# Altium integrated library CUPL PLD Programming.IntLib: 365 symbols (part 1 of 2)
Pins are listed as number, name and electrical type; pins without a type are passive.

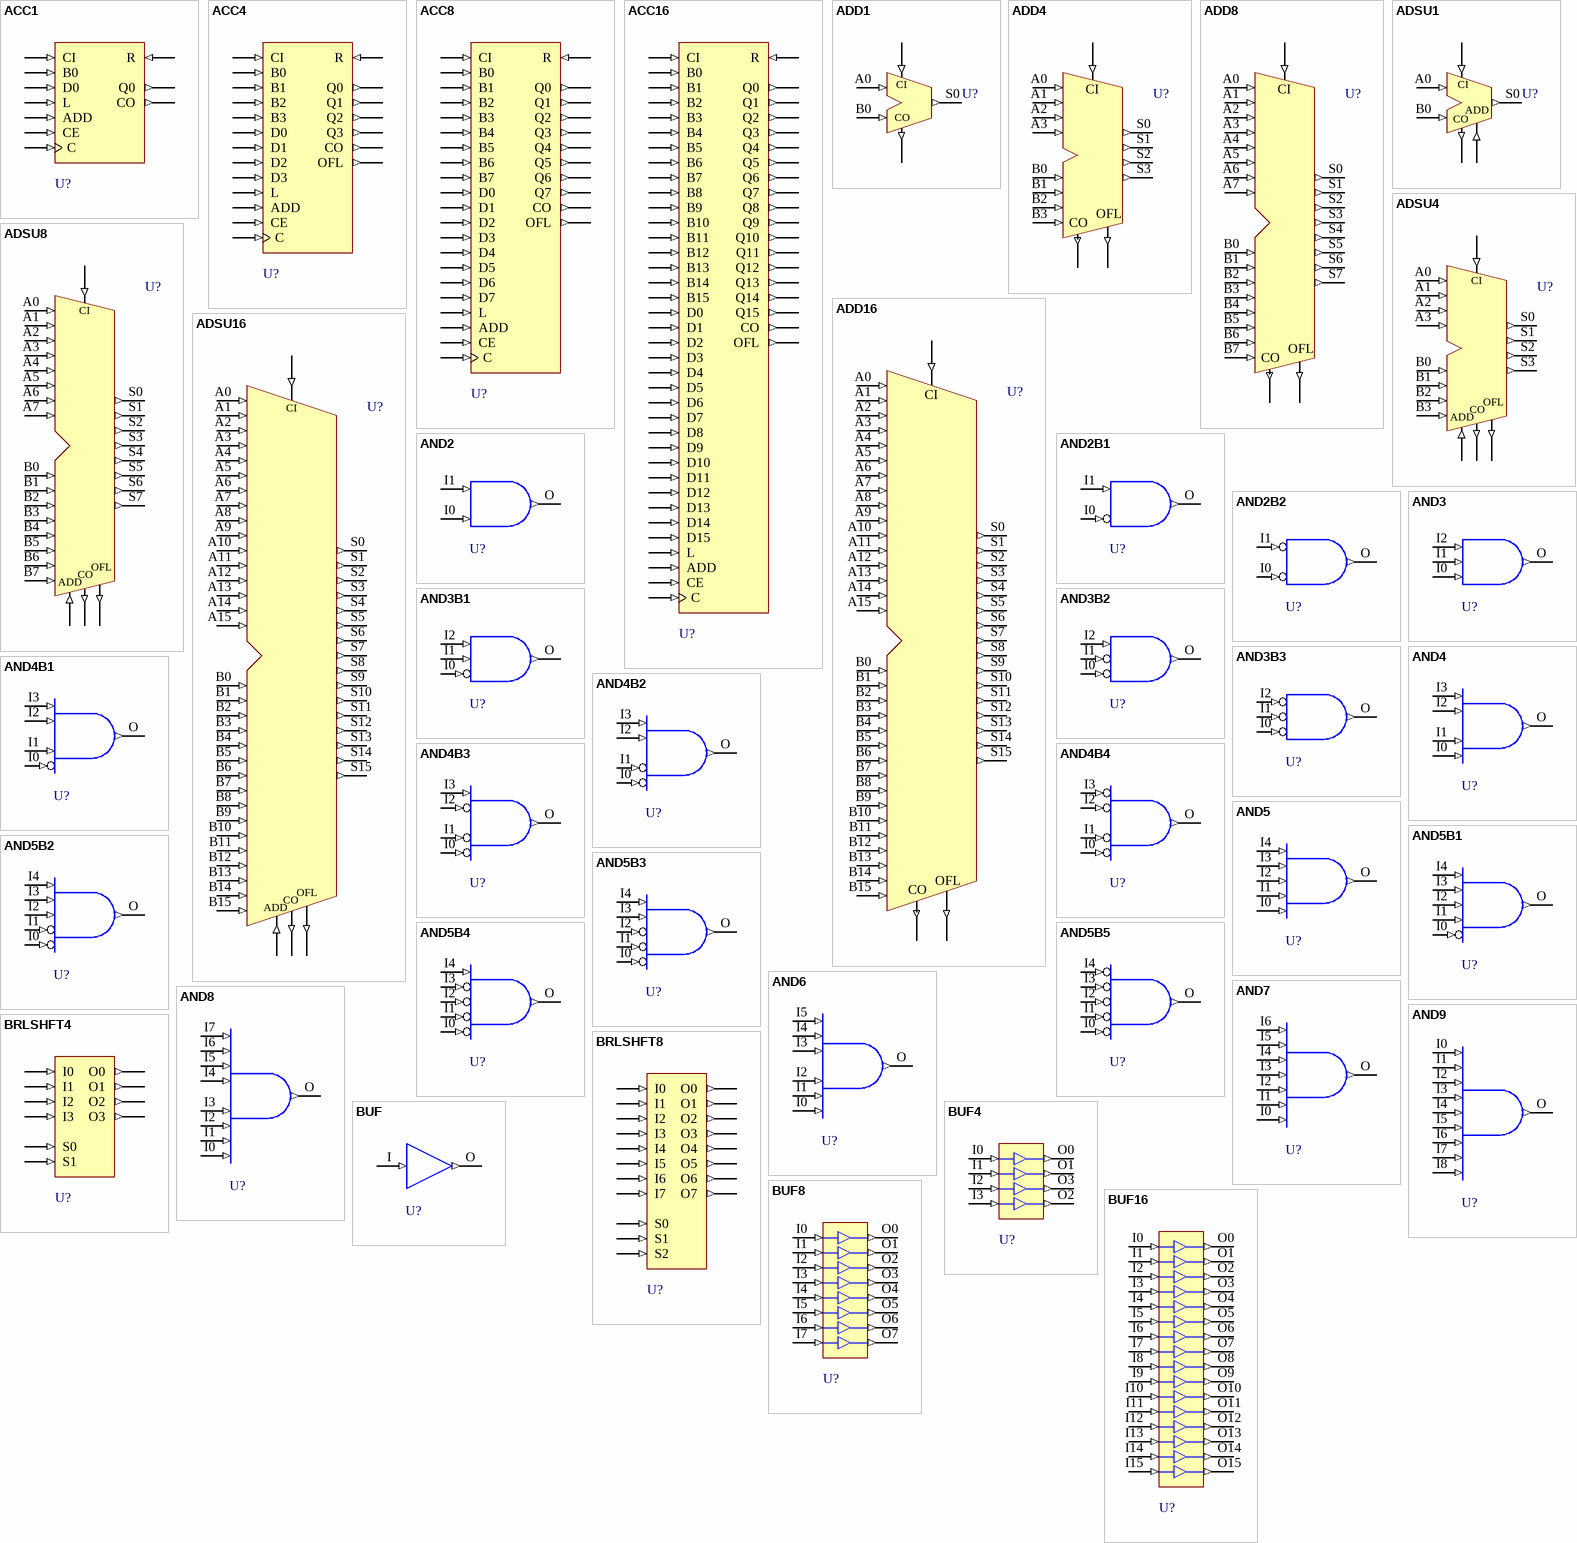
[diagram p0: symbols ACC1 to BUF16]

## ACC1
designator U?
1-Bit Loadable Cascadable Accumulator with Carry-In, Carry-Out and Synchronous Reset; FPGAVendor: CUPL; Published: 17/04/2002 5:24:18 PM; DatasheetDocument: 1999; Publisher: Altium Limited
pins: ADD (in), B0 (in), C (in), CE (in), CI (in), CO (out), D0 (in), L (in), Q0 (out), R (in)

## ACC4
designator U?
4-Bit Loadable Cascadable Accumulator with Carry-In, Carry-Out and Synchronous Reset; FPGAVendor: CUPL; Published: 17/04/2002 5:24:18 PM; DatasheetDocument: 1999; Publisher: Altium Limited
pins: ADD (in), B0 (in), B1 (in), B2 (in), B3 (in), C (in), CE (in), CI (in), CO (out), D0 (in), D1 (in), D2 (in), D3 (in), L (in), OFL (out), Q0 (out), Q1 (out), Q2 (out), Q3 (out), R (in)

## ACC8
designator U?
8-Bit Loadable Cascadable Accumulator with Carry-In, Carry-Out and Synchronous Reset; FPGAVendor: CUPL; Published: 17/04/2002 5:24:18 PM; DatasheetDocument: 1999; Publisher: Altium Limited
pins: ADD (in), B0 (in), B1 (in), B2 (in), B3 (in), B4 (in), B5 (in), B6 (in), B7 (in), C (in), CE (in), CI (in), CO (out), D0 (in), D1 (in), D2 (in), D3 (in), D4 (in), D5 (in), D6 (in), D7 (in), L (in), OFL (out), Q0 (out), Q1 (out), Q2 (out), Q3 (out), Q4 (out), Q5 (out), Q6 (out), Q7 (out), R (in)

## ACC16
designator U?
16-Bit Loadable Cascadable Accumulator with Carry-In, Carry-Out and Synchronous Reset; FPGAVendor: CUPL; Published: 17/04/2002 5:24:18 PM; DatasheetDocument: 1999; Publisher: Altium Limited
pins: ADD (in), B0 (in), B1 (in), B2 (in), B3 (in), B4 (in), B5 (in), B6 (in), B7 (in), B8 (in), B9 (in), B10 (in), B11 (in), B12 (in), B13 (in), B14 (in), B15 (in), C (in), CE (in), CI (in), CO (out), D0 (in), D1 (in), D2 (in), D3 (in), D4 (in), D5 (in), D6 (in), D7 (in), D8 (in), D9 (in), D10 (in), D11 (in), D12 (in), D13 (in), D14 (in), D15 (in), L (in), OFL (out), Q0 (out), Q1 (out), Q2 (out), Q3 (out), Q4 (out), Q5 (out), Q6 (out), Q7 (out), Q8 (out), Q9 (out), Q10 (out), Q11 (out), Q12 (out), Q13 (out), Q14 (out), Q15 (out), R (in)

## ADD1
designator U?
1-Bit Full Adder with Carry-In and Carry-Out; FPGAVendor: CUPL; Published: 17/04/2002 5:24:18 PM; DatasheetDocument: 1999; Publisher: Altium Limited
pins: A0 (in), B0 (in), CI (in), CO (out), S0 (out)

## ADD4
designator U?
4-Bit Cascadable Full Adders with Carry-In, Carry-Out and Overflow; FPGAVendor: CUPL; Published: 17/04/2002 5:24:18 PM; DatasheetDocument: 1999; Publisher: Altium Limited
pins: A0 (in), A1 (in), A2 (in), A3 (in), B0 (in), B1 (in), B2 (in), B3 (in), CI (in), CO (out), OFL (out), S0 (out), S1 (out), S2 (out), S3 (out)

## ADD8
designator U?
8-Bit Cascadable Full Adders with Carry-In, Carry-Out and Overflow; FPGAVendor: CUPL; Published: 17/04/2002 5:24:18 PM; DatasheetDocument: 1999; Publisher: Altium Limited
pins: A0 (in), A1 (in), A2 (in), A3 (in), A4 (in), A5 (in), A6 (in), A7 (in), B0 (in), B1 (in), B2 (in), B3 (in), B4 (in), B5 (in), B6 (in), B7 (in), CI (in), CO (out), OFL (out), S0 (out), S1 (out), S2 (out), S3 (out), S4 (out), S5 (out), S6 (out), S7 (out)

## ADD16
designator U?
16-Bit Cascadable Full Adders with Carry-In, Carry-Out and Overflow; FPGAVendor: CUPL; Published: 17/04/2002 5:24:18 PM; DatasheetDocument: 1999; Publisher: Altium Limited
pins: A0 (in), A1 (in), A2 (in), A3 (in), A4 (in), A5 (in), A6 (in), A7 (in), A8 (in), A9 (in), A10 (in), A11 (in), A12 (in), A13 (in), A14 (in), A15 (in), B0 (in), B1 (in), B2 (in), B3 (in), B4 (in), B5 (in), B6 (in), B7 (in), B8 (in), B9 (in), B10 (in), B11 (in), B12 (in), B13 (in), B14 (in), B15 (in), CI (in), CO (out), OFL (out), S0 (out), S1 (out), S2 (out), S3 (out), S4 (out), S5 (out), S6 (out), S7 (out), S8 (out), S9 (out), S10 (out), S11 (out), S12 (out), S13 (out), S14 (out), S15 (out)

## ADSU1
designator U?
1-Bit Cascadable Adder/Subtracter with Carry-In and Carry-Out; FPGAVendor: CUPL; Published: 17/04/2002 5:24:18 PM; DatasheetDocument: 1999; Publisher: Altium Limited
pins: A0 (in), ADD (in), B0 (in), CI (in), CO (out), S0 (out)

## ADSU4
designator U?
4-Bit Cascadable Adders/Subtracters with Carry-In, Carry-Out and Overflow; FPGAVendor: CUPL; Published: 17/04/2002 5:24:18 PM; DatasheetDocument: 1999; Publisher: Altium Limited
pins: A0 (in), A1 (in), A2 (in), A3 (in), ADD (in), B0 (in), B1 (in), B2 (in), B3 (in), CI (in), CO (out), OFL (out), S0 (out), S1 (out), S2 (out), S3 (out)

## ADSU8
designator U?
8-Bit Cascadable Adders/Subtracters with Carry-In, Carry-Out and Overflow; FPGAVendor: CUPL; Published: 17/04/2002 5:24:18 PM; DatasheetDocument: 1999; Publisher: Altium Limited
pins: A0 (in), A1 (in), A2 (in), A3 (in), A4 (in), A5 (in), A6 (in), A7 (in), ADD (in), B0 (in), B1 (in), B2 (in), B3 (in), B4 (in), B5 (in), B6 (in), B7 (in), CI (in), CO (out), OFL (out), S0 (out), S1 (out), S2 (out), S3 (out), S4 (out), S5 (out), S6 (out), S7 (out)

## ADSU16
designator U?
16-Bit Cascadable Adders/Subtracters with Carry-In, Carry-Out and Overflow; FPGAVendor: CUPL; Published: 17/04/2002 5:24:18 PM; DatasheetDocument: 1999; Publisher: Altium Limited
pins: A0 (in), A1 (in), A2 (in), A3 (in), A4 (in), A5 (in), A6 (in), A7 (in), A8 (in), A9 (in), A10 (in), A11 (in), A12 (in), A13 (in), A14 (in), A15 (in), ADD (in), B0 (in), B1 (in), B2 (in), B3 (in), B4 (in), B5 (in), B6 (in), B7 (in), B8 (in), B9 (in), B10 (in), B11 (in), B12 (in), B13 (in), B14 (in), B15 (in), CI (in), CO (out), OFL (out), S0 (out), S1 (out), S2 (out), S3 (out), S4 (out), S5 (out), S6 (out), S7 (out), S8 (out), S9 (out), S10 (out), S11 (out), S12 (out), S13 (out), S14 (out), S15 (out)

## AND2
designator U?
2-Input AND Gate; FPGAVendor: CUPL; Published: 17/04/2002 5:24:18 PM; DatasheetDocument: 1999; Publisher: Altium Limited
pins: I0 (in), I1 (in), O (out)

## AND2B1
designator U?
2-Input AND Gate with One Inverted Input; FPGAVendor: CUPL; Published: 17/04/2002 5:24:18 PM; DatasheetDocument: 1999; Publisher: Altium Limited
pins: I0 (in), I1 (in), O (out)

## AND2B2
designator U?
2-Input AND Gate with Two Inverted Inputs; FPGAVendor: CUPL; Published: 17/04/2002 5:24:18 PM; DatasheetDocument: 1999; Publisher: Altium Limited
pins: I0 (in), I1 (in), O (out)

## AND3
designator U?
3-Input AND Gate; FPGAVendor: CUPL; Published: 17/04/2002 5:24:18 PM; DatasheetDocument: 1999; Publisher: Altium Limited
pins: I0 (in), I1 (in), I2 (in), O (out)

## AND3B1
designator U?
3-Input AND Gate with One Inverted Input; FPGAVendor: CUPL; Published: 17/04/2002 5:24:18 PM; DatasheetDocument: 1999; Publisher: Altium Limited
pins: I0 (in), I1 (in), I2 (in), O (out)

## AND3B2
designator U?
3-Input AND Gate with Two Inverted Inputs; FPGAVendor: CUPL; Published: 17/04/2002 5:24:18 PM; DatasheetDocument: 1999; Publisher: Altium Limited
pins: I0 (in), I1 (in), I2 (in), O (out)

## AND3B3
designator U?
3-Input AND Gate with Three Inverted Inputs; FPGAVendor: CUPL; Published: 17/04/2002 5:24:18 PM; DatasheetDocument: 1999; Publisher: Altium Limited
pins: I0 (in), I1 (in), I2 (in), O (out)

## AND4
designator U?
4-Input AND Gate; FPGAVendor: CUPL; Published: 17/04/2002 5:24:18 PM; DatasheetDocument: 1999; Publisher: Altium Limited
pins: I0 (in), I1 (in), I2 (in), I3 (in), O (out)

## AND4B1
designator U?
4-Input AND Gate with One Inverted Input; FPGAVendor: CUPL; Published: 17/04/2002 5:24:18 PM; DatasheetDocument: 1999; Publisher: Altium Limited
pins: I0 (in), I1 (in), I2 (in), I3 (in), O (out)

## AND4B2
designator U?
4-Input AND Gate with Two Inverted Inputs; FPGAVendor: CUPL; Published: 17/04/2002 5:24:18 PM; DatasheetDocument: 1999; Publisher: Altium Limited
pins: I0 (in), I1 (in), I2 (in), I3 (in), O (out)

## AND4B3
designator U?
4-Input AND Gate with Three Inverted Inputs; FPGAVendor: CUPL; Published: 17/04/2002 5:24:18 PM; DatasheetDocument: 1999; Publisher: Altium Limited
pins: I0 (in), I1 (in), I2 (in), I3 (in), O (out)

## AND4B4
designator U?
4-Input AND Gate with Four Inverted Inputs; FPGAVendor: CUPL; Published: 17/04/2002 5:24:18 PM; DatasheetDocument: 1999; Publisher: Altium Limited
pins: I0 (in), I1 (in), I2 (in), I3 (in), O (out)

## AND5
designator U?
5-Input AND Gate; FPGAVendor: CUPL; Published: 17/04/2002 5:24:18 PM; DatasheetDocument: 1999; Publisher: Altium Limited
pins: I0 (in), I1 (in), I2 (in), I3 (in), I4 (in), O (out)

## AND5B1
designator U?
5-Input AND Gate with One Inverted Input; FPGAVendor: CUPL; Published: 17/04/2002 5:24:18 PM; DatasheetDocument: 1999; Publisher: Altium Limited
pins: I0 (in), I1 (in), I2 (in), I3 (in), I4 (in), O (out)

## AND5B2
designator U?
5-Input AND Gate with Two Inverted Inputs; FPGAVendor: CUPL; Published: 17/04/2002 5:24:18 PM; DatasheetDocument: 1999; Publisher: Altium Limited
pins: I0 (in), I1 (in), I2 (in), I3 (in), I4 (in), O (out)

## AND5B3
designator U?
5-Input AND Gate with Three Inverted Inputs; FPGAVendor: CUPL; Published: 17/04/2002 5:24:18 PM; DatasheetDocument: 1999; Publisher: Altium Limited
pins: I0 (in), I1 (in), I2 (in), I3 (in), I4 (in), O (out)

## AND5B4
designator U?
5-Input AND Gate with Four Inverted Inputs; FPGAVendor: CUPL; Published: 17/04/2002 5:24:18 PM; DatasheetDocument: 1999; Publisher: Altium Limited
pins: I0 (in), I1 (in), I2 (in), I3 (in), I4 (in), O (out)

## AND5B5
designator U?
5-Input AND Gate with Five Inverted Inputs; FPGAVendor: CUPL; Published: 17/04/2002 5:24:18 PM; DatasheetDocument: 1999; Publisher: Altium Limited
pins: I0 (in), I1 (in), I2 (in), I3 (in), I4 (in), O (out)

## AND6
designator U?
6-Input AND Gate; FPGAVendor: CUPL; Published: 17/04/2002 5:24:18 PM; DatasheetDocument: 1999; Publisher: Altium Limited
pins: I0 (in), I1 (in), I2 (in), I3 (in), I4 (in), I5 (in), O (out)

## AND7
designator U?
7-Input AND Gate; FPGAVendor: CUPL; Published: 17/04/2002 5:24:18 PM; DatasheetDocument: 1999; Publisher: Altium Limited
pins: I0 (in), I1 (in), I2 (in), I3 (in), I4 (in), I5 (in), I6 (in), O (out)

## AND8
designator U?
8-Input AND Gate; FPGAVendor: CUPL; Published: 17/04/2002 5:24:18 PM; DatasheetDocument: 1999; Publisher: Altium Limited
pins: I0 (in), I1 (in), I2 (in), I3 (in), I4 (in), I5 (in), I6 (in), I7 (in), O (out)

## AND9
designator U?
9-Input AND Gate; FPGAVendor: CUPL; Published: 17/04/2002 5:24:18 PM; DatasheetDocument: 1999; Publisher: Altium Limited
pins: I0 (in), I1 (in), I2 (in), I3 (in), I4 (in), I5 (in), I6 (in), I7 (in), I8 (in), O (out)

## BRLSHFT4
designator U?
4-Bit Barrel Shifter; FPGAVendor: CUPL; Published: 17/04/2002 5:24:18 PM; DatasheetDocument: 1999; Publisher: Altium Limited
pins: I0 (in), I1 (in), I2 (in), I3 (in), O0 (out), O1 (out), O2 (out), O3 (out), S0 (in), S1 (in)

## BRLSHFT8
designator U?
8-Bit Barrel Shifter; FPGAVendor: CUPL; Published: 17/04/2002 5:24:18 PM; DatasheetDocument: 1999; Publisher: Altium Limited
pins: I0 (in), I1 (in), I2 (in), I3 (in), I4 (in), I5 (in), I6 (in), I7 (in), O0 (out), O1 (out), O2 (out), O3 (out), O4 (out), O5 (out), O6 (out), O7 (out), S0 (in), S1 (in), S2 (in)

## BUF
designator U?
Global Clock Buffer; FPGAVendor: CUPL; Published: 17/04/2002 5:24:18 PM; DatasheetDocument: 1999; Publisher: Altium Limited
pins: I (in), O (out)

## BUF4
designator U?
General-Purpose Buffer; FPGAVendor: CUPL; Published: 17/04/2002 5:24:18 PM; DatasheetDocument: 1999; Publisher: Altium Limited
pins: I0 (in), I1 (in), I2 (in), I3 (in), O0 (out), O1 (out), O2 (out), O3 (out)

## BUF8
designator U?
General-Purpose Buffer; FPGAVendor: CUPL; Published: 17/04/2002 5:24:18 PM; DatasheetDocument: 1999; Publisher: Altium Limited
pins: I0 (in), I1 (in), I2 (in), I3 (in), I4 (in), I5 (in), I6 (in), I7 (in), O0 (out), O1 (out), O2 (out), O3 (out), O4 (out), O5 (out), O6 (out), O7 (out)

## BUF16
designator U?
General-Purpose Buffer; FPGAVendor: CUPL; Published: 17/04/2002 5:24:18 PM; DatasheetDocument: 1999; Publisher: Altium Limited
pins: I0 (in), I1 (in), I2 (in), I3 (in), I4 (in), I5 (in), I6 (in), I7 (in), I8 (in), I9 (in), I10 (in), I11 (in), I12 (in), I13 (in), I14 (in), I15 (in), O0 (out), O1 (out), O2 (out), O3 (out), O4 (out), O5 (out), O6 (out), O7 (out), O8 (out), O9 (out), O10 (out), O11 (out), O12 (out), O13 (out), O14 (out), O15 (out)

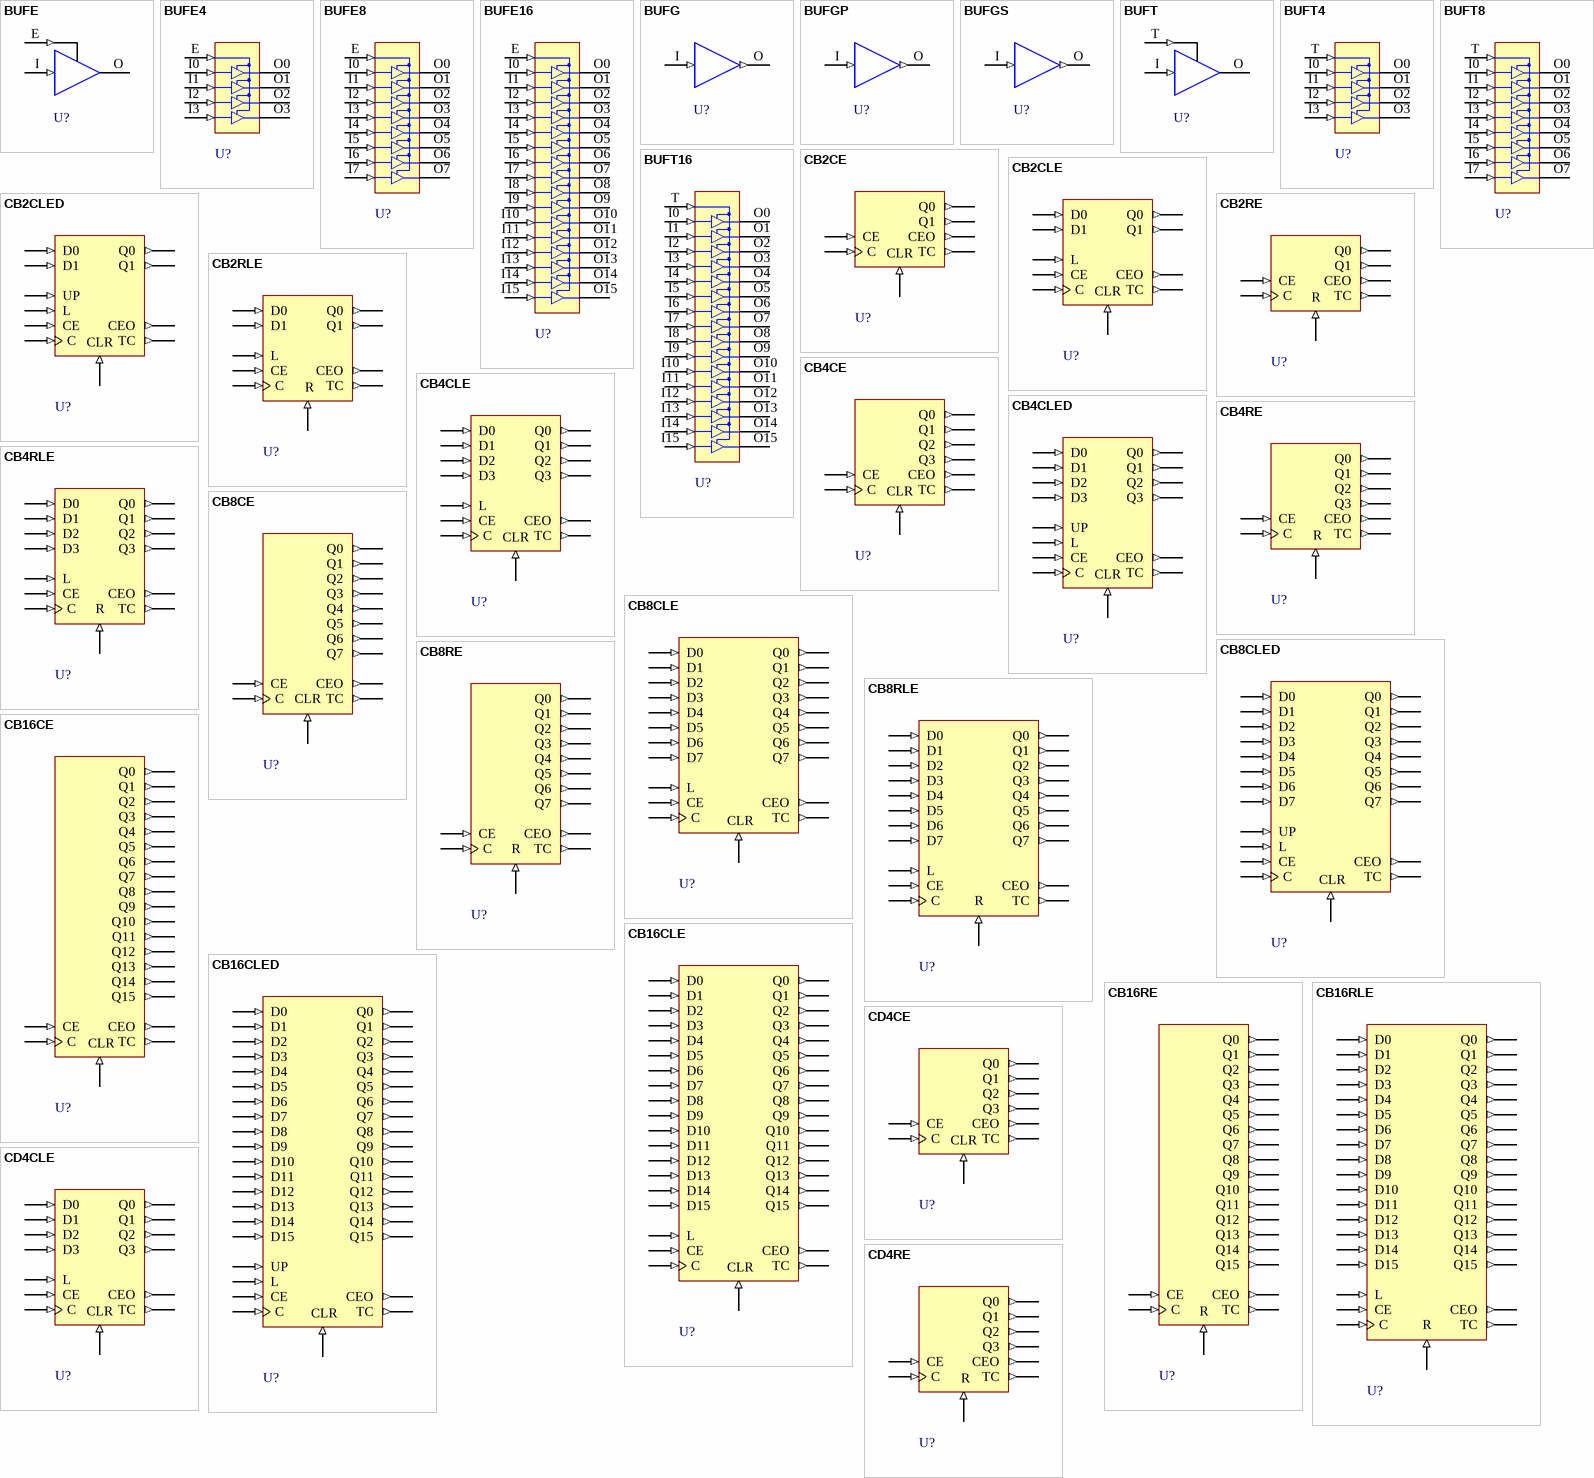
[diagram p1: symbols BUFE to CD4RE]

## BUFE
designator U?
Internal 3-State Buffers with Active High Enable; FPGAVendor: CUPL; Published: 17/04/2002 5:24:18 PM; DatasheetDocument: 1999; Publisher: Altium Limited
pins: E (in), I (in), O (hiz)

## BUFE4
designator U?
Internal 3-State Buffers with Active High Enable; FPGAVendor: CUPL; Published: 17/04/2002 5:24:18 PM; DatasheetDocument: 1999; Publisher: Altium Limited
pins: E (in), I0 (in), I1 (in), I2 (in), I3 (in), O0 (hiz), O1 (hiz), O2 (hiz), O3 (hiz)

## BUFE8
designator U?
Internal 3-State Buffers with Active High Enable; FPGAVendor: CUPL; Published: 17/04/2002 5:24:18 PM; DatasheetDocument: 1999; Publisher: Altium Limited
pins: E (in), I0 (in), I1 (in), I2 (in), I3 (in), I4 (in), I5 (in), I6 (in), I7 (in), O0 (hiz), O1 (hiz), O2 (hiz), O3 (hiz), O4 (hiz), O5 (hiz), O6 (hiz), O7 (hiz)

## BUFE16
designator U?
Internal 3-State Buffers with Active High Enable; FPGAVendor: CUPL; Published: 17/04/2002 5:24:18 PM; DatasheetDocument: 1999; Publisher: Altium Limited
pins: E (in), I0 (in), I1 (in), I2 (in), I3 (in), I4 (in), I5 (in), I6 (in), I7 (in), I8 (in), I9 (in), I10 (in), I11 (in), I12 (in), I13 (in), I14 (in), I15 (in), O0 (hiz), O1 (hiz), O2 (hiz), O3 (hiz), O4 (hiz), O5 (hiz), O6 (hiz), O7 (hiz), O8 (hiz), O9 (hiz), O10 (hiz), O11 (hiz), O12 (hiz), O13 (hiz), O14 (hiz), O15 (hiz)

## BUFG
designator U?
Global Clock Buffer; FPGAVendor: CUPL; Published: 17/04/2002 5:24:18 PM; DatasheetDocument: 1999; Publisher: Altium Limited
pins: I (in), O (out)

## BUFGP
designator U?
Primary Global Buffer for Driving Clocks or Longlines (Four per PLD Device); FPGAVendor: CUPL; Published: 17/04/2002 5:24:18 PM; DatasheetDocument: 1999; Publisher: Altium Limited
pins: I (in), O (out)

## BUFGS
designator U?
Secondary Global Buffer for Driving Clocks or Longlines (Four per PLD Device); FPGAVendor: CUPL; Published: 17/04/2002 5:24:18 PM; DatasheetDocument: 1999; Publisher: Altium Limited
pins: I (in), O (out)

## BUFT
designator U?
Internal 3-State Buffer with Active-Low Enable; FPGAVendor: CUPL; Published: 17/04/2002 5:24:18 PM; DatasheetDocument: 1999; Publisher: Altium Limited
pins: I (in), O (hiz), T (in)

## BUFT4
designator U?
Internal 3-State Buffers with Active-Low Enable; FPGAVendor: CUPL; Published: 17/04/2002 5:24:18 PM; DatasheetDocument: 1999; Publisher: Altium Limited
pins: I0 (in), I1 (in), I2 (in), I3 (in), O0 (hiz), O1 (hiz), O2 (hiz), O3 (hiz), T (in)

## BUFT8
designator U?
Internal 3-State Buffers with Active-Low Enable; FPGAVendor: CUPL; Published: 17/04/2002 5:24:18 PM; DatasheetDocument: 1999; Publisher: Altium Limited
pins: I0 (in), I1 (in), I2 (in), I3 (in), I4 (in), I5 (in), I6 (in), I7 (in), O0 (hiz), O1 (hiz), O2 (hiz), O3 (hiz), O4 (hiz), O5 (hiz), O6 (hiz), O7 (hiz), T (in)

## BUFT16
designator U?
Internal 3-State Buffers with Active-Low Enable; FPGAVendor: CUPL; Published: 17/04/2002 5:24:18 PM; DatasheetDocument: 1999; Publisher: Altium Limited
pins: I0 (in), I1 (in), I2 (in), I3 (in), I4 (in), I5 (in), I6 (in), I7 (in), I8 (in), I9 (in), I10 (in), I11 (in), I12 (in), I13 (in), I14 (in), I15 (in), O0 (hiz), O1 (hiz), O2 (hiz), O3 (hiz), O4 (hiz), O5 (hiz), O6 (hiz), O7 (hiz), O8 (hiz), O9 (hiz), O10 (hiz), O11 (hiz), O12 (hiz), O13 (hiz), O14 (hiz), O15 (hiz), T (in)

## CB2CE
designator U?
2-Bit Cascadable Binary Counter with Clock Enable and Asynchronous Clear; FPGAVendor: CUPL; Published: 17/04/2002 5:24:18 PM; DatasheetDocument: 1999; Publisher: Altium Limited
pins: C (in), CE (in), CEO (out), CLR (in), Q0 (out), Q1 (out), TC (out)

## CB2CLE
designator U?
2-Bit Loadable Cascadable Binary Counter with Clock Enable and Asynchronous Clear; FPGAVendor: CUPL; Published: 17/04/2002 5:24:18 PM; DatasheetDocument: 1999; Publisher: Altium Limited
pins: C (in), CE (in), CEO (out), CLR (in), D0 (in), D1 (in), L (in), Q0 (out), Q1 (out), TC (out)

## CB2CLED
designator U?
2-Bit Loadable Cascadable Bidirectional Binary Counter with Clock Enable and Asynchronous Clear; FPGAVendor: CUPL; Published: 17/04/2002 5:24:18 PM; DatasheetDocument: 1999; Publisher: Altium Limited
pins: C (in), CE (in), CEO (out), CLR (in), D0 (in), D1 (in), L (in), Q0 (out), Q1 (out), TC (out), UP (in)

## CB2RE
designator U?
2-Bit Cascadable Binary Counter with Clock Enable and Synchronous Reset; FPGAVendor: CUPL; Published: 17/04/2002 5:24:18 PM; DatasheetDocument: 1999; Publisher: Altium Limited
pins: C (in), CE (in), CEO (out), Q0 (out), Q1 (out), R (in), TC (out)

## CB2RLE
designator U?
2-Bit Loadable Cascadable Binary Counter with Clock Enable and Synchronous Reset; FPGAVendor: CUPL; Published: 17/04/2002 5:24:18 PM; DatasheetDocument: 1999; Publisher: Altium Limited
pins: C (in), CE (in), CEO (out), D0 (in), D1 (in), L (in), Q0 (out), Q1 (out), R (in), TC (out)

## CB4CE
designator U?
4-Bit Cascadable Binary Counter with Clock Enable and Asynchronous Clear; FPGAVendor: CUPL; Published: 17/04/2002 5:24:18 PM; DatasheetDocument: 1999; Publisher: Altium Limited
pins: C (in), CE (in), CEO (out), CLR (in), Q0 (out), Q1 (out), Q2 (out), Q3 (out), TC (out)

## CB4CLE
designator U?
4-Bit Loadable Cascadable Binary Counter with Clock Enable and Asynchronous Clear; FPGAVendor: CUPL; Published: 17/04/2002 5:24:18 PM; DatasheetDocument: 1999; Publisher: Altium Limited
pins: C (in), CE (in), CEO (out), CLR (in), D0 (in), D1 (in), D2 (in), D3 (in), L (in), Q0 (out), Q1 (out), Q2 (out), Q3 (out), TC (out)

## CB4CLED
designator U?
4-Bit Loadable Cascadable Bidirectional Binary Counter with Clock Enable and Asynchronous Clear; FPGAVendor: CUPL; Published: 17/04/2002 5:24:18 PM; DatasheetDocument: 1999; Publisher: Altium Limited
pins: C (in), CE (in), CEO (out), CLR (in), D0 (in), D1 (in), D2 (in), D3 (in), L (in), Q0 (out), Q1 (out), Q2 (out), Q3 (out), TC (out), UP (in)

## CB4RE
designator U?
4-Bit Cascadable Binary Counter with Clock Enable and Synchronous Reset; FPGAVendor: CUPL; Published: 17/04/2002 5:24:18 PM; DatasheetDocument: 1999; Publisher: Altium Limited
pins: C (in), CE (in), CEO (out), Q0 (out), Q1 (out), Q2 (out), Q3 (out), R (in), TC (out)

## CB4RLE
designator U?
4-Bit Loadable Cascadable Binary Counter with Clock Enable and Synchronous Reset; FPGAVendor: CUPL; Published: 17/04/2002 5:24:18 PM; DatasheetDocument: 1999; Publisher: Altium Limited
pins: C (in), CE (in), CEO (out), D0 (in), D1 (in), D2 (in), D3 (in), L (in), Q0 (out), Q1 (out), Q2 (out), Q3 (out), R (in), TC (out)

## CB8CE
designator U?
8-Bit Cascadable Binary Counter with Clock Enable and Asynchronous Clear; FPGAVendor: CUPL; Published: 17/04/2002 5:24:18 PM; DatasheetDocument: 1999; Publisher: Altium Limited
pins: C (in), CE (in), CEO (out), CLR (in), Q0 (out), Q1 (out), Q2 (out), Q3 (out), Q4 (out), Q5 (out), Q6 (out), Q7 (out), TC (out)

## CB8CLE
designator U?
8-Bit Loadable Cascadable Binary Counter with Clock Enable and Asynchronous Clear; FPGAVendor: CUPL; Published: 17/04/2002 5:24:18 PM; DatasheetDocument: 1999; Publisher: Altium Limited
pins: C (in), CE (in), CEO (out), CLR (in), D0 (in), D1 (in), D2 (in), D3 (in), D4 (in), D5 (in), D6 (in), D7 (in), L (in), Q0 (out), Q1 (out), Q2 (out), Q3 (out), Q4 (out), Q5 (out), Q6 (out), Q7 (out), TC (out)

## CB8CLED
designator U?
8-Bit Loadable Cascadable Bidirectional Binary Counter with Clock Enable and Asynchronous Clear; FPGAVendor: CUPL; Published: 17/04/2002 5:24:18 PM; DatasheetDocument: 1999; Publisher: Altium Limited
pins: C (in), CE (in), CEO (out), CLR (in), D0 (in), D1 (in), D2 (in), D3 (in), D4 (in), D5 (in), D6 (in), D7 (in), L (in), Q0 (out), Q1 (out), Q2 (out), Q3 (out), Q4 (out), Q5 (out), Q6 (out), Q7 (out), TC (out), UP (in)

## CB8RE
designator U?
8-Bit Cascadable Binary Counter with Clock Enable and Synchronous Reset; FPGAVendor: CUPL; Published: 17/04/2002 5:24:18 PM; DatasheetDocument: 1999; Publisher: Altium Limited
pins: C (in), CE (in), CEO (out), Q0 (out), Q1 (out), Q2 (out), Q3 (out), Q4 (out), Q5 (out), Q6 (out), Q7 (out), R (in), TC (out)

## CB8RLE
designator U?
8-Bit Loadable Cascadable Binary Counter with Clock Enable and Synchronous Reset; FPGAVendor: CUPL; Published: 17/04/2002 5:24:18 PM; DatasheetDocument: 1999; Publisher: Altium Limited
pins: C (in), CE (in), CEO (out), D0 (in), D1 (in), D2 (in), D3 (in), D4 (in), D5 (in), D6 (in), D7 (in), L (in), Q0 (out), Q1 (out), Q2 (out), Q3 (out), Q4 (out), Q5 (out), Q6 (out), Q7 (out), R (in), TC (out)

## CB16CE
designator U?
16-Bit Cascadable Binary Counter with Clock Enable and Asynchronous Clear; FPGAVendor: CUPL; Published: 17/04/2002 5:24:18 PM; DatasheetDocument: 1999; Publisher: Altium Limited
pins: C (in), CE (in), CEO (out), CLR (in), Q0 (out), Q1 (out), Q2 (out), Q3 (out), Q4 (out), Q5 (out), Q6 (out), Q7 (out), Q8 (out), Q9 (out), Q10 (out), Q11 (out), Q12 (out), Q13 (out), Q14 (out), Q15 (out), TC (out)

## CB16CLE
designator U?
16-Bit Loadable Cascadable Binary Counters with Clock Enable and Asynchronous Clear; FPGAVendor: CUPL; Published: 17/04/2002 5:24:18 PM; DatasheetDocument: 1999; Publisher: Altium Limited
pins: C (in), CE (in), CEO (out), CLR (in), D0 (in), D1 (in), D2 (in), D3 (in), D4 (in), D5 (in), D6 (in), D7 (in), D8 (in), D9 (in), D10 (in), D11 (in), D12 (in), D13 (in), D14 (in), D15 (in), L (in), Q0 (out), Q1 (out), Q2 (out), Q3 (out), Q4 (out), Q5 (out), Q6 (out), Q7 (out), Q8 (out), Q9 (out), Q10 (out), Q11 (out), Q12 (out), Q13 (out), Q14 (out), Q15 (out), TC (out)

## CB16CLED
designator U?
16-Bit Loadable Cascadable Bidirectional Binary Counter with Clock Enable and Asynchronous Clear; FPGAVendor: CUPL; Published: 17/04/2002 5:24:18 PM; DatasheetDocument: 1999; Publisher: Altium Limited
pins: C (in), CE (in), CEO (out), CLR (in), D0 (in), D1 (in), D2 (in), D3 (in), D4 (in), D5 (in), D6 (in), D7 (in), D8 (in), D9 (in), D10 (in), D11 (in), D12 (in), D13 (in), D14 (in), D15 (in), L (in), Q0 (out), Q1 (out), Q2 (out), Q3 (out), Q4 (out), Q5 (out), Q6 (out), Q7 (out), Q8 (out), Q9 (out), Q10 (out), Q11 (out), Q12 (out), Q13 (out), Q14 (out), Q15 (out), TC (out), UP (in)

## CB16RE
designator U?
16-Bit Cascadable Binary Counter with Clock Enable and Synchronous Reset; FPGAVendor: CUPL; Published: 17/04/2002 5:24:18 PM; DatasheetDocument: 1999; Publisher: Altium Limited
pins: C (in), CE (in), CEO (out), Q0 (out), Q1 (out), Q2 (out), Q3 (out), Q4 (out), Q5 (out), Q6 (out), Q7 (out), Q8 (out), Q9 (out), Q10 (out), Q11 (out), Q12 (out), Q13 (out), Q14 (out), Q15 (out), R (in), TC (out)

## CB16RLE
designator U?
16-Bit Loadable Cascadable Binary Counter with Clock Enable and Synchronous Reset; FPGAVendor: CUPL; Published: 17/04/2002 5:24:18 PM; DatasheetDocument: 1999; Publisher: Altium Limited
pins: C (in), CE (in), CEO (out), D0 (in), D1 (in), D2 (in), D3 (in), D4 (in), D5 (in), D6 (in), D7 (in), D8 (in), D9 (in), D10 (in), D11 (in), D12 (in), D13 (in), D14 (in), D15 (in), L (in), Q0 (out), Q1 (out), Q2 (out), Q3 (out), Q4 (out), Q5 (out), Q6 (out), Q7 (out), Q8 (out), Q9 (out), Q10 (out), Q11 (out), Q12 (out), Q13 (out), Q14 (out), Q15 (out), R (in), TC (out)

## CD4CE
designator U?
4-Bit Cascadable BCD Counter with Clock Enable and Asynchronous Clear; FPGAVendor: CUPL; Published: 17/04/2002 5:24:18 PM; DatasheetDocument: 1999; Publisher: Altium Limited
pins: C (in), CE (in), CEO (out), CLR (in), Q0 (out), Q1 (out), Q2 (out), Q3 (out), TC (out)

## CD4CLE
designator U?
4-Bit Loadable Cascadable BCD Counter with Clock Enable and Asynchronous Clear; FPGAVendor: CUPL; Published: 17/04/2002 5:24:18 PM; DatasheetDocument: 1999; Publisher: Altium Limited
pins: C (in), CE (in), CEO (out), CLR (in), D0 (in), D1 (in), D2 (in), D3 (in), L (in), Q0 (out), Q1 (out), Q2 (out), Q3 (out), TC (out)

## CD4RE
designator U?
4-Bit Cascadable BCD Counter with Clock Enable and Synchronous Reset; FPGAVendor: CUPL; Published: 17/04/2002 5:24:18 PM; DatasheetDocument: 1999; Publisher: Altium Limited
pins: C (in), CE (in), CEO (out), Q0 (out), Q1 (out), Q2 (out), Q3 (out), R (in), TC (out)

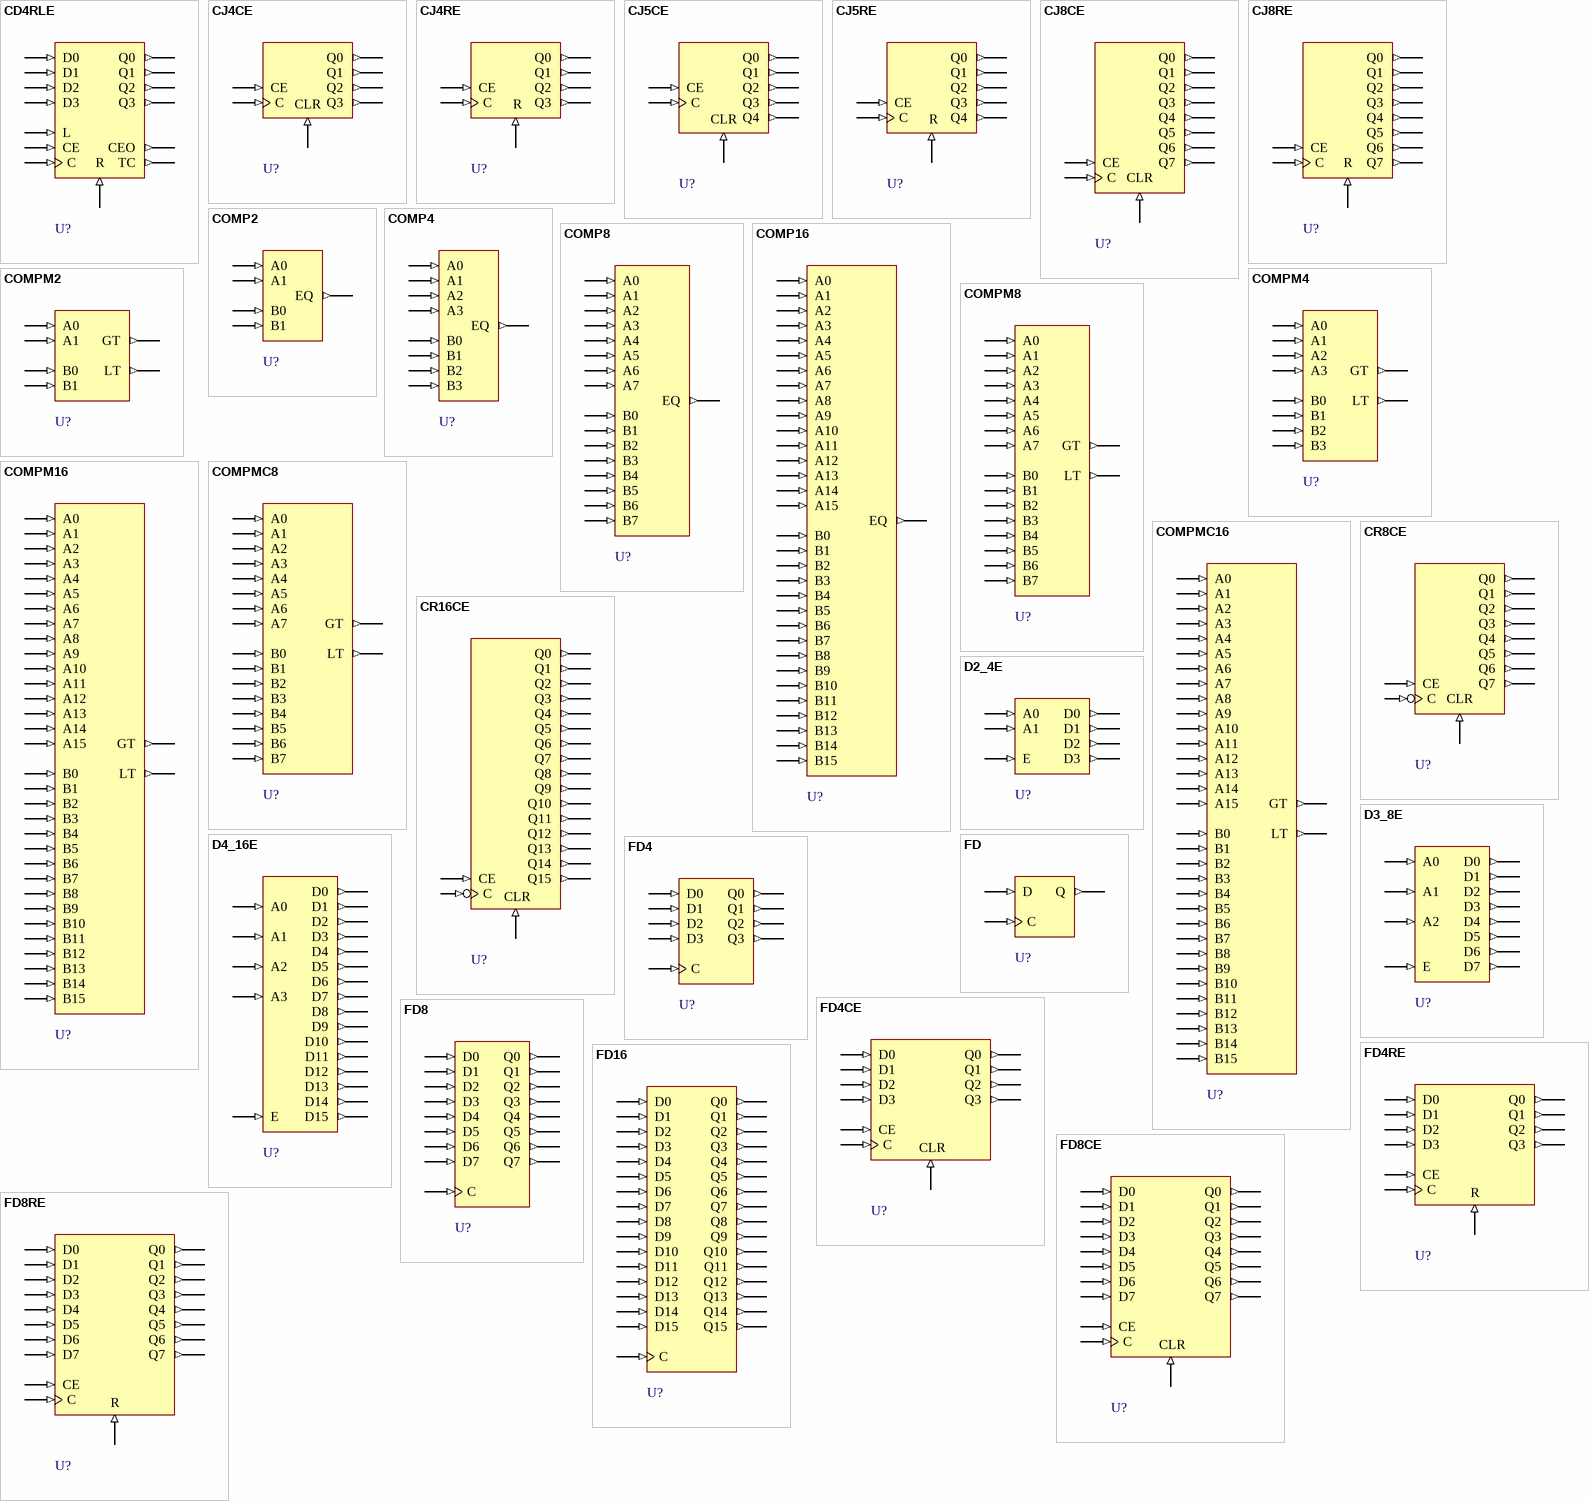
[diagram p2: symbols CD4RLE to FD16]

## CD4RLE
designator U?
4-Bit Loadable Cascadable BCD Counter with Clock Enable and Synchronous Reset; FPGAVendor: CUPL; Published: 17/04/2002 5:24:18 PM; DatasheetDocument: 1999; Publisher: Altium Limited
pins: C (in), CE (in), CEO (out), D0 (in), D1 (in), D2 (in), D3 (in), L (in), Q0 (out), Q1 (out), Q2 (out), Q3 (out), R (in), TC (out)

## CJ4CE
designator U?
4-Bit Johnson Counter with Clock Enable and Asynchronous Clear; FPGAVendor: CUPL; Published: 17/04/2002 5:24:18 PM; DatasheetDocument: 1999; Publisher: Altium Limited
pins: C (in), CE (in), CLR (in), Q0 (out), Q1 (out), Q2 (out), Q3 (out)

## CJ4RE
designator U?
4-Bit Johnson Counter with Clock Enable and Synchronous Reset; FPGAVendor: CUPL; Published: 17/04/2002 5:24:18 PM; DatasheetDocument: 1999; Publisher: Altium Limited
pins: C (in), CE (in), Q0 (out), Q1 (out), Q2 (out), Q3 (out), R (in)

## CJ5CE
designator U?
5-Bit Johnson Counter with Clock Enable and Asynchronous Clear; FPGAVendor: CUPL; Published: 17/04/2002 5:24:18 PM; DatasheetDocument: 1999; Publisher: Altium Limited
pins: C (in), CE (in), CLR (in), Q0 (out), Q1 (out), Q2 (out), Q3 (out), Q4 (out)

## CJ5RE
designator U?
5-Bit Johnson Counters with Clock Enable and Synchronous Reset; FPGAVendor: CUPL; Published: 17/04/2002 5:24:18 PM; DatasheetDocument: 1999; Publisher: Altium Limited
pins: C (in), CE (in), Q0 (out), Q1 (out), Q2 (out), Q3 (out), Q4 (out), R (in)

## CJ8CE
designator U?
8-Bit Johnson Counter with Clock Enable and Asynchronous Clear; FPGAVendor: CUPL; Published: 17/04/2002 5:24:18 PM; DatasheetDocument: 1999; Publisher: Altium Limited
pins: C (in), CE (in), CLR (in), Q0 (out), Q1 (out), Q2 (out), Q3 (out), Q4 (out), Q5 (out), Q6 (out), Q7 (out)

## CJ8RE
designator U?
8-Bit Johnson Counter with Clock Enable and Synchronous Reset; FPGAVendor: CUPL; Published: 17/04/2002 5:24:18 PM; DatasheetDocument: 1999; Publisher: Altium Limited
pins: C (in), CE (in), Q0 (out), Q1 (out), Q2 (out), Q3 (out), Q4 (out), Q5 (out), Q6 (out), Q7 (out), R (in)

## COMP2
designator U?
2-Bit Identity Comparator; FPGAVendor: CUPL; Published: 17/04/2002 5:24:18 PM; DatasheetDocument: 1999; Publisher: Altium Limited
pins: A0 (in), A1 (in), B0 (in), B1 (in), EQ (out)

## COMP4
designator U?
4-Bit Identity Comparator; FPGAVendor: CUPL; Published: 17/04/2002 5:24:18 PM; DatasheetDocument: 1999; Publisher: Altium Limited
pins: A0 (in), A1 (in), A2 (in), A3 (in), B0 (in), B1 (in), B2 (in), B3 (in), EQ (out)

## COMP8
designator U?
8-Bit Identity Comparator; FPGAVendor: CUPL; Published: 17/04/2002 5:24:18 PM; DatasheetDocument: 1999; Publisher: Altium Limited
pins: A0 (in), A1 (in), A2 (in), A3 (in), A4 (in), A5 (in), A6 (in), A7 (in), B0 (in), B1 (in), B2 (in), B3 (in), B4 (in), B5 (in), B6 (in), B7 (in), EQ (out)

## COMP16
designator U?
16-Bit Identity Comparator; FPGAVendor: CUPL; Published: 17/04/2002 5:24:18 PM; DatasheetDocument: 1999; Publisher: Altium Limited
pins: A0 (in), A1 (in), A2 (in), A3 (in), A4 (in), A5 (in), A6 (in), A7 (in), A8 (in), A9 (in), A10 (in), A11 (in), A12 (in), A13 (in), A14 (in), A15 (in), B0 (in), B1 (in), B2 (in), B3 (in), B4 (in), B5 (in), B6 (in), B7 (in), B8 (in), B9 (in), B10 (in), B11 (in), B12 (in), B13 (in), B14 (in), B15 (in), EQ (out)

## COMPM2
designator U?
2-Bit Magnitude Comparator; FPGAVendor: CUPL; Published: 17/04/2002 5:24:18 PM; DatasheetDocument: 1999; Publisher: Altium Limited
pins: A0 (in), A1 (in), B0 (in), B1 (in), GT (out), LT (out)

## COMPM4
designator U?
4-Bit Magnitude Comparator; FPGAVendor: CUPL; Published: 17/04/2002 5:24:18 PM; DatasheetDocument: 1999; Publisher: Altium Limited
pins: A0 (in), A1 (in), A2 (in), A3 (in), B0 (in), B1 (in), B2 (in), B3 (in), GT (out), LT (out)

## COMPM8
designator U?
8-Bit Magnitude Comparator; FPGAVendor: CUPL; Published: 17/04/2002 5:24:18 PM; DatasheetDocument: 1999; Publisher: Altium Limited
pins: A0 (in), A1 (in), A2 (in), A3 (in), A4 (in), A5 (in), A6 (in), A7 (in), B0 (in), B1 (in), B2 (in), B3 (in), B4 (in), B5 (in), B6 (in), B7 (in), GT (out), LT (out)

## COMPM16
designator U?
16-Bit Magnitude Comparator; FPGAVendor: CUPL; Published: 17/04/2002 5:24:18 PM; DatasheetDocument: 1999; Publisher: Altium Limited
pins: A0 (in), A1 (in), A2 (in), A3 (in), A4 (in), A5 (in), A6 (in), A7 (in), A8 (in), A9 (in), A10 (in), A11 (in), A12 (in), A13 (in), A14 (in), A15 (in), B0 (in), B1 (in), B2 (in), B3 (in), B4 (in), B5 (in), B6 (in), B7 (in), B8 (in), B9 (in), B10 (in), B11 (in), B12 (in), B13 (in), B14 (in), B15 (in), GT (out), LT (out)

## COMPMC8
designator U?
8-Bit Magnitude Comparator; FPGAVendor: CUPL; Published: 17/04/2002 5:24:18 PM; DatasheetDocument: 1999; Publisher: Altium Limited
pins: A0 (in), A1 (in), A2 (in), A3 (in), A4 (in), A5 (in), A6 (in), A7 (in), B0 (in), B1 (in), B2 (in), B3 (in), B4 (in), B5 (in), B6 (in), B7 (in), GT (out), LT (out)

## COMPMC16
designator U?
16-Bit Magnitude Comparator; FPGAVendor: CUPL; Published: 17/04/2002 5:24:18 PM; DatasheetDocument: 1999; Publisher: Altium Limited
pins: A0 (in), A1 (in), A2 (in), A3 (in), A4 (in), A5 (in), A6 (in), A7 (in), A8 (in), A9 (in), A10 (in), A11 (in), A12 (in), A13 (in), A14 (in), A15 (in), B0 (in), B1 (in), B2 (in), B3 (in), B4 (in), B5 (in), B6 (in), B7 (in), B8 (in), B9 (in), B10 (in), B11 (in), B12 (in), B13 (in), B14 (in), B15 (in), GT (out), LT (out)

## CR8CE
designator U?
8-Bit Negative-Edge Binary Ripple Counter with Clock Enable and Asynchronous Clear; FPGAVendor: CUPL; Published: 17/04/2002 5:24:18 PM; DatasheetDocument: 1999; Publisher: Altium Limited
pins: C (in), CE (in), CLR (in), Q0 (out), Q1 (out), Q2 (out), Q3 (out), Q4 (out), Q5 (out), Q6 (out), Q7 (out)

## CR16CE
designator U?
16-Bit Negative-Edge Binary Ripple Counter with Clock Enable and Asynchronous Clear; FPGAVendor: CUPL; Published: 17/04/2002 5:24:18 PM; DatasheetDocument: 1999; Publisher: Altium Limited
pins: C (in), CE (in), CLR (in), Q0 (out), Q1 (out), Q2 (out), Q3 (out), Q4 (out), Q5 (out), Q6 (out), Q7 (out), Q8 (out), Q9 (out), Q10 (out), Q11 (out), Q12 (out), Q13 (out), Q14 (out), Q15 (out)

## D2_4E
designator U?
2- to 4-Line Decoder/Demultiplexer with Enable; FPGAVendor: CUPL; Published: 17/04/2002 5:24:18 PM; DatasheetDocument: 1999; Publisher: Altium Limited
pins: A0 (in), A1 (in), D0 (out), D1 (out), D2 (out), D3 (out), E (in)

## D3_8E
designator U?
3- to 8-Line Decoder/Demultiplexer with Enable; FPGAVendor: CUPL; Published: 17/04/2002 5:24:18 PM; DatasheetDocument: 1999; Publisher: Altium Limited
pins: A0 (in), A1 (in), A2 (in), D0 (out), D1 (out), D2 (out), D3 (out), D4 (out), D5 (out), D6 (out), D7 (out), E (in)

## D4_16E
designator U?
4- to 16-Line Decoder/Demultiplexer with Enable; FPGAVendor: CUPL; Published: 17/04/2002 5:24:18 PM; DatasheetDocument: 1999; Publisher: Altium Limited
pins: A0 (in), A1 (in), A2 (in), A3 (in), D0 (out), D1 (out), D2 (out), D3 (out), D4 (out), D5 (out), D6 (out), D7 (out), D8 (out), D9 (out), D10 (out), D11 (out), D12 (out), D13 (out), D14 (out), D15 (out), E (in)

## FD
designator U?
D Flip-Flop; FPGAVendor: CUPL; Published: 17/04/2002 5:24:18 PM; DatasheetDocument: 1999; Publisher: Altium Limited
pins: C (in), D (in), Q (out)

## FD4
designator U?
Multiple D Flip-Flops; FPGAVendor: CUPL; Published: 17/04/2002 5:24:18 PM; DatasheetDocument: 1999; Publisher: Altium Limited
pins: C (in), D0 (in), D1 (in), D2 (in), D3 (in), Q0 (out), Q1 (out), Q2 (out), Q3 (out)

## FD4CE
designator U?
4-Bit Data Registers with Clock Enable and Asynchronous Clear; FPGAVendor: CUPL; Published: 17/04/2002 5:24:18 PM; DatasheetDocument: 1999; Publisher: Altium Limited
pins: C (in), CE (in), CLR (in), D0 (in), D1 (in), D2 (in), D3 (in), Q0 (out), Q1 (out), Q2 (out), Q3 (out)

## FD4RE
designator U?
4-Bit Data Registers with Clock Enable and Synchronous Reset; FPGAVendor: CUPL; Published: 17/04/2002 5:24:18 PM; DatasheetDocument: 1999; Publisher: Altium Limited
pins: C (in), CE (in), D0 (in), D1 (in), D2 (in), D3 (in), Q0 (out), Q1 (out), Q2 (out), Q3 (out), R (in)

## FD8
designator U?
Multiple D Flip-Flops; FPGAVendor: CUPL; Published: 17/04/2002 5:24:18 PM; DatasheetDocument: 1999; Publisher: Altium Limited
pins: C (in), D0 (in), D1 (in), D2 (in), D3 (in), D4 (in), D5 (in), D6 (in), D7 (in), Q0 (out), Q1 (out), Q2 (out), Q3 (out), Q4 (out), Q5 (out), Q6 (out), Q7 (out)

## FD8CE
designator U?
8-Bit Data Registers with Clock Enable and Asynchronous Clear; FPGAVendor: CUPL; Published: 17/04/2002 5:24:18 PM; DatasheetDocument: 1999; Publisher: Altium Limited
pins: C (in), CE (in), CLR (in), D0 (in), D1 (in), D2 (in), D3 (in), D4 (in), D5 (in), D6 (in), D7 (in), Q0 (out), Q1 (out), Q2 (out), Q3 (out), Q4 (out), Q5 (out), Q6 (out), Q7 (out)

## FD8RE
designator U?
8-Bit Data Registers with Clock Enable and Synchronous Reset; FPGAVendor: CUPL; Published: 17/04/2002 5:24:18 PM; DatasheetDocument: 1999; Publisher: Altium Limited
pins: C (in), CE (in), D0 (in), D1 (in), D2 (in), D3 (in), D4 (in), D5 (in), D6 (in), D7 (in), Q0 (out), Q1 (out), Q2 (out), Q3 (out), Q4 (out), Q5 (out), Q6 (out), Q7 (out), R (in)

## FD16
designator U?
Multiple D Flip-Flops; FPGAVendor: CUPL; Published: 17/04/2002 5:24:18 PM; DatasheetDocument: 1999; Publisher: Altium Limited
pins: C (in), D0 (in), D1 (in), D2 (in), D3 (in), D4 (in), D5 (in), D6 (in), D7 (in), D8 (in), D9 (in), D10 (in), D11 (in), D12 (in), D13 (in), D14 (in), D15 (in), Q0 (out), Q1 (out), Q2 (out), Q3 (out), Q4 (out), Q5 (out), Q6 (out), Q7 (out), Q8 (out), Q9 (out), Q10 (out), Q11 (out), Q12 (out), Q13 (out), Q14 (out), Q15 (out)

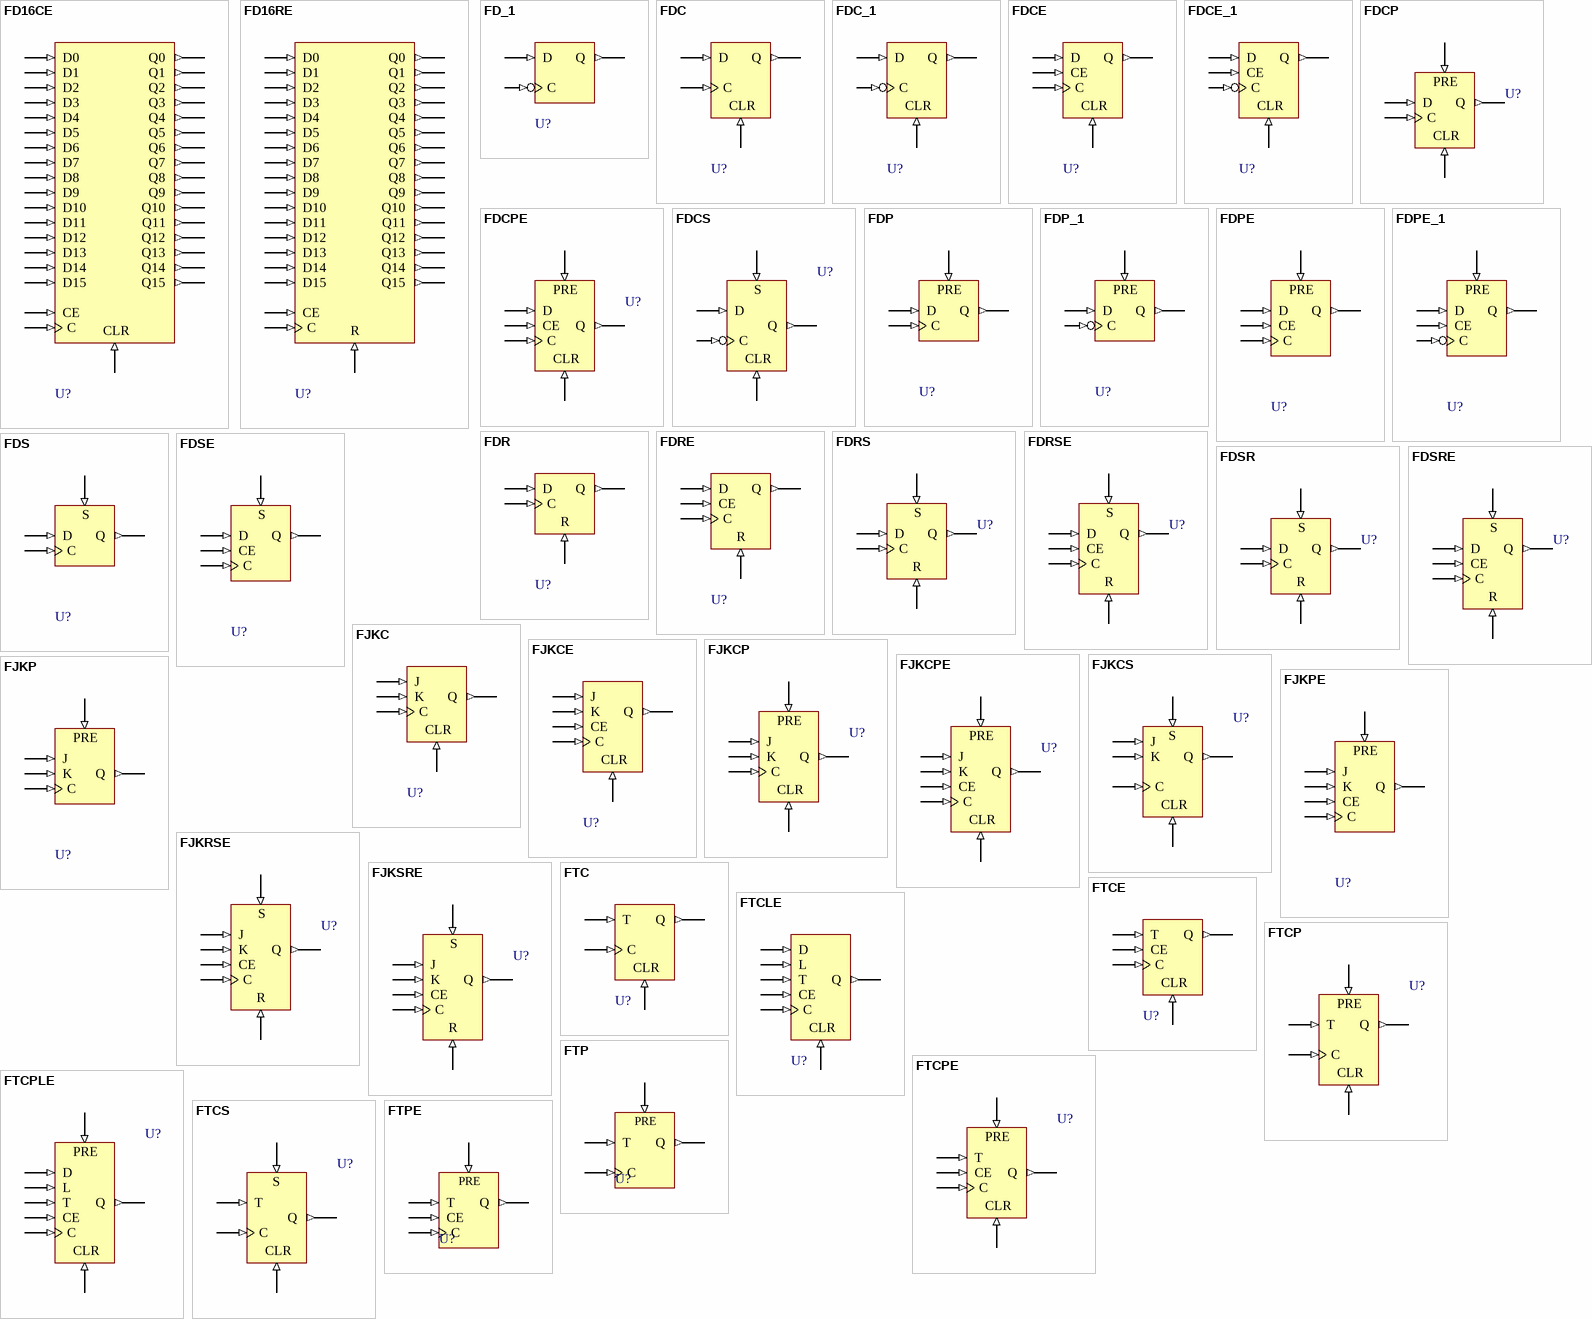
[diagram p3: symbols FD16CE to FTPE]

## FD16CE
designator U?
16-Bit Data Registers with Clock Enable and Asynchronous Clear; FPGAVendor: CUPL; Published: 17/04/2002 5:24:18 PM; DatasheetDocument: 1999; Publisher: Altium Limited
pins: C (in), CE (in), CLR (in), D0 (in), D1 (in), D2 (in), D3 (in), D4 (in), D5 (in), D6 (in), D7 (in), D8 (in), D9 (in), D10 (in), D11 (in), D12 (in), D13 (in), D14 (in), D15 (in), Q0 (out), Q1 (out), Q2 (out), Q3 (out), Q4 (out), Q5 (out), Q6 (out), Q7 (out), Q8 (out), Q9 (out), Q10 (out), Q11 (out), Q12 (out), Q13 (out), Q14 (out), Q15 (out)

## FD16RE
designator U?
16-Bit Data Registers with Clock Enable and Synchronous Reset; FPGAVendor: CUPL; Published: 17/04/2002 5:24:18 PM; DatasheetDocument: 1999; Publisher: Altium Limited
pins: C (in), CE (in), D0 (in), D1 (in), D2 (in), D3 (in), D4 (in), D5 (in), D6 (in), D7 (in), D8 (in), D9 (in), D10 (in), D11 (in), D12 (in), D13 (in), D14 (in), D15 (in), Q0 (out), Q1 (out), Q2 (out), Q3 (out), Q4 (out), Q5 (out), Q6 (out), Q7 (out), Q8 (out), Q9 (out), Q10 (out), Q11 (out), Q12 (out), Q13 (out), Q14 (out), Q15 (out), R (in)

## FD_1
designator U?
D Flip-Flop with Negative-Edge Clock; FPGAVendor: CUPL; Published: 17/04/2002 5:24:18 PM; DatasheetDocument: 1999; Publisher: Altium Limited
pins: C (in), D (in), Q (out)

## FDC
designator U?
D Flip-Flop with Asynchronous Clear; FPGAVendor: CUPL; Published: 17/04/2002 5:24:18 PM; DatasheetDocument: 1999; Publisher: Altium Limited
pins: C (in), CLR (in), D (in), Q (out)

## FDC_1
designator U?
D Flip-Flop with Negative-Edge Clock and Asynchronous Clear; FPGAVendor: CUPL; Published: 17/04/2002 5:24:18 PM; DatasheetDocument: 1999; Publisher: Altium Limited
pins: C (in), CLR (in), D (in), Q (out)

## FDCE
designator U?
D Flip-Flop with Clock Enable and Asynchronous Clear; FPGAVendor: CUPL; Published: 17/04/2002 5:24:18 PM; DatasheetDocument: 1999; Publisher: Altium Limited
pins: C (in), CE (in), CLR (in), D (in), Q (out)

## FDCE_1
designator U?
D Flip-Flop with Negative-Edge Clock, Clock Enable, and Asynchronous Clear; FPGAVendor: CUPL; Published: 17/04/2002 5:24:18 PM; DatasheetDocument: 1999; Publisher: Altium Limited
pins: C (in), CE (in), CLR (in), D (in), Q (out)

## FDCP
designator U?
D Flip-Flop Asynchronous Preset and Clear; FPGAVendor: CUPL; Published: 17/04/2002 5:24:18 PM; DatasheetDocument: 1999; Publisher: Altium Limited
pins: C (in), CLR (in), D (in), PRE (in), Q (out)

## FDCPE
designator U?
D Flip-Flop with Clock Enable and Asynchronous Preset and Clear; FPGAVendor: CUPL; Published: 17/04/2002 5:24:18 PM; DatasheetDocument: 1999; Publisher: Altium Limited
pins: C (in), CE (in), CLR (in), D (in), PRE (in), Q (out)

## FDCS
designator U?
D Flip-Flop with clear and set; FPGAVendor: CUPL; Published: 17/04/2002 5:24:18 PM; Publisher: Altium Limited
pins: C (in), CLR (in), D (in), Q (out), S (in)

## FDP
designator U?
D Flip-Flop with Asynchronous Preset; FPGAVendor: CUPL; Published: 17/04/2002 5:24:18 PM; DatasheetDocument: 1999; Publisher: Altium Limited
pins: C (in), D (in), PRE (in), Q (out)

## FDP_1
designator U?
D Flip-Flop with Negative-Edge Clock and Asynchronous Preset; FPGAVendor: CUPL; Published: 17/04/2002 5:24:18 PM; DatasheetDocument: 1999; Publisher: Altium Limited
pins: C (in), D (in), PRE (in), Q (out)

## FDPE
designator U?
D Flip-Flop with Clock Enable and Asynchronous Preset; FPGAVendor: CUPL; Published: 17/04/2002 5:24:18 PM; DatasheetDocument: 1999; Publisher: Altium Limited
pins: C (in), CE (in), D (in), PRE (in), Q (out)

## FDPE_1
designator U?
D Flip-Flop with Negative-Edge Clock, Clock Enable, and Asynchronous Preset; FPGAVendor: CUPL; Published: 17/04/2002 5:24:18 PM; DatasheetDocument: 1999; Publisher: Altium Limited
pins: C (in), CE (in), D (in), PRE (in), Q (out)

## FDR
designator U?
D Flip-Flop with Synchronous Reset; FPGAVendor: CUPL; Published: 17/04/2002 5:24:18 PM; DatasheetDocument: 1999; Publisher: Altium Limited
pins: C (in), D (in), Q (out), R (in)

## FDRE
designator U?
D Flip-Flop with Clock Enable and Synchronous Reset; FPGAVendor: CUPL; Published: 17/04/2002 5:24:18 PM; DatasheetDocument: 1999; Publisher: Altium Limited
pins: C (in), CE (in), D (in), Q (out), R (in)

## FDRS
designator U?
D Flip-Flop with Synchronous Reset and Set; FPGAVendor: CUPL; Published: 17/04/2002 5:24:18 PM; DatasheetDocument: 1999; Publisher: Altium Limited
pins: C (in), D (in), Q (out), R (in), S (in)

## FDRSE
designator U?
D Flip-Flop with Synchronous Reset and Set and Clock Enable; FPGAVendor: CUPL; Published: 17/04/2002 5:24:18 PM; DatasheetDocument: 1999; Publisher: Altium Limited
pins: C (in), CE (in), D (in), Q (out), R (in), S (in)

## FDS
designator U?
D Flip-Flop with Synchronous Set; FPGAVendor: CUPL; Published: 17/04/2002 5:24:18 PM; DatasheetDocument: 1999; Publisher: Altium Limited
pins: C (in), D (in), Q (out), S (in)

## FDSE
designator U?
D Flip-Flop with Clock Enable and Synchronous Set; FPGAVendor: CUPL; Published: 17/04/2002 5:24:18 PM; DatasheetDocument: 1999; Publisher: Altium Limited
pins: C (in), CE (in), D (in), Q (out), S (in)

## FDSR
designator U?
D Flip-Flop with Synchronous Set and Reset; FPGAVendor: CUPL; Published: 17/04/2002 5:24:18 PM; DatasheetDocument: 1999; Publisher: Altium Limited
pins: C (in), D (in), Q (out), R (in), S (in)

## FDSRE
designator U?
D Flip-Flop with Synchronous Set and Reset and Clock Enable; FPGAVendor: CUPL; Published: 17/04/2002 5:24:18 PM; DatasheetDocument: 1999; Publisher: Altium Limited
pins: C (in), CE (in), D (in), Q (out), R (in), S (in)

## FJKC
designator U?
J-K Flip-Flop with Asynchronous Clear; FPGAVendor: CUPL; Published: 17/04/2002 5:24:18 PM; DatasheetDocument: 1999; Publisher: Altium Limited
pins: C (in), CLR (in), J (in), K (in), Q (out)

## FJKCE
designator U?
J-K Flip-Flop with Clock Enable and Asynchronous Clear; FPGAVendor: CUPL; Published: 17/04/2002 5:24:18 PM; DatasheetDocument: 1999; Publisher: Altium Limited
pins: C (in), CE (in), CLR (in), J (in), K (in), Q (out)

## FJKCP
designator U?
J-K Flip-Flop with Asynchronous Clear and Preset; FPGAVendor: CUPL; Published: 17/04/2002 5:24:18 PM; DatasheetDocument: 1999; Publisher: Altium Limited
pins: C (in), CLR (in), J (in), K (in), PRE (in), Q (out)

## FJKCPE
designator U?
J-K Flip-Flop with Asynchronous Clear and Preset and Clock Enable; FPGAVendor: CUPL; Published: 17/04/2002 5:24:18 PM; DatasheetDocument: 1999; Publisher: Altium Limited
pins: C (in), CE (in), CLR (in), J (in), K (in), PRE (in), Q (out)

## FJKCS
designator U?
J-K Flip-Flop with clear and set; FPGAVendor: CUPL; Published: 17/04/2002 5:24:18 PM; Publisher: Altium Limited
pins: C (in), CLR (in), J (in), K (in), Q (out), S (in)

## FJKP
designator U?
J-K Flip-Flop with Asynchronous Preset; FPGAVendor: CUPL; Published: 17/04/2002 5:24:18 PM; DatasheetDocument: 1999; Publisher: Altium Limited
pins: C (in), J (in), K (in), PRE (in), Q (out)

## FJKPE
designator U?
J-K Flip-Flop with Clock Enable and Asynchronous Preset; FPGAVendor: CUPL; Published: 17/04/2002 5:24:18 PM; DatasheetDocument: 1999; Publisher: Altium Limited
pins: C (in), CE (in), J (in), K (in), PRE (in), Q (out)

## FJKRSE
designator U?
J-K Flip-Flop with Clock Enable and Synchronous Reset and Set; FPGAVendor: CUPL; Published: 17/04/2002 5:24:18 PM; DatasheetDocument: 1999; Publisher: Altium Limited
pins: C (in), CE (in), J (in), K (in), Q (out), R (in), S (in)

## FJKSRE
designator U?
J-K Flip-Flop with Clock Enable and Synchronous Set and Reset; FPGAVendor: CUPL; Published: 17/04/2002 5:24:18 PM; DatasheetDocument: 1999; Publisher: Altium Limited
pins: C (in), CE (in), J (in), K (in), Q (out), R (in), S (in)

## FTC
designator U?
Toggle Flip-Flop with Toggle Enable and Asynchronous Clear; FPGAVendor: CUPL; Published: 17/04/2002 5:24:18 PM; DatasheetDocument: 1999; Publisher: Altium Limited
pins: C (in), CLR (in), Q (out), T (in)

## FTCE
designator U?
Toggle Flip-Flop with Toggle and Clock Enable and Asynchronous Clear; FPGAVendor: CUPL; Published: 17/04/2002 5:24:18 PM; DatasheetDocument: 1999; Publisher: Altium Limited
pins: C (in), CE (in), CLR (in), Q (out), T (in)

## FTCLE
designator U?
Toggle/Loadable Flip-Flop with Toggle and Clock Enable and Asynchronous Clear; FPGAVendor: CUPL; Published: 17/04/2002 5:24:18 PM; DatasheetDocument: 1999; Publisher: Altium Limited
pins: C (in), CE (in), CLR (in), D (in), L (in), Q (out), T (in)

## FTCP
designator U?
Toggle Flip-Flop with Toggle Enable and Asynchronous Clear and Preset; FPGAVendor: CUPL; Published: 17/04/2002 5:24:18 PM; DatasheetDocument: 1999; Publisher: Altium Limited
pins: C (in), CLR (in), PRE (in), Q (out), T (in)

## FTCPE
designator U?
Toggle Flip-Flop with Toggle and Clock Enable and Asynchronous Clear and Preset; FPGAVendor: CUPL; Published: 17/04/2002 5:24:18 PM; DatasheetDocument: 1999; Publisher: Altium Limited
pins: C (in), CE (in), CLR (in), PRE (in), Q (out), T (in)

## FTCPLE
designator U?
Loadable Toggle Flip-Flop with Toggle and Clock Enable and Asynchronous Clear and Preset; FPGAVendor: CUPL; Published: 17/04/2002 5:24:18 PM; DatasheetDocument: 1999; Publisher: Altium Limited
pins: C (in), CE (in), CLR (in), D (in), L (in), PRE (in), Q (out), T (in)

## FTCS
designator U?
Toggle Flip-Flop clear and set; FPGAVendor: CUPL; Published: 17/04/2002 5:24:18 PM; Publisher: Altium Limited
pins: C (in), CLR (in), Q (out), S (in), T (in)

## FTP
designator U?
Toggle Flip-Flop with Toggle Enable and Asynchronous Preset; FPGAVendor: CUPL; Published: 17/04/2002 5:24:18 PM; Publisher: Altium Limited
pins: C (in), PRE (in), Q (out), T (in)

## FTPE
designator U?
Toggle Flip-Flop with Toggle and Clock Enable and Asynchronous Preset; FPGAVendor: CUPL; Published: 17/04/2002 5:24:18 PM; Publisher: Altium Limited
pins: C (in), CE (in), PRE (in), Q (out), T (in)

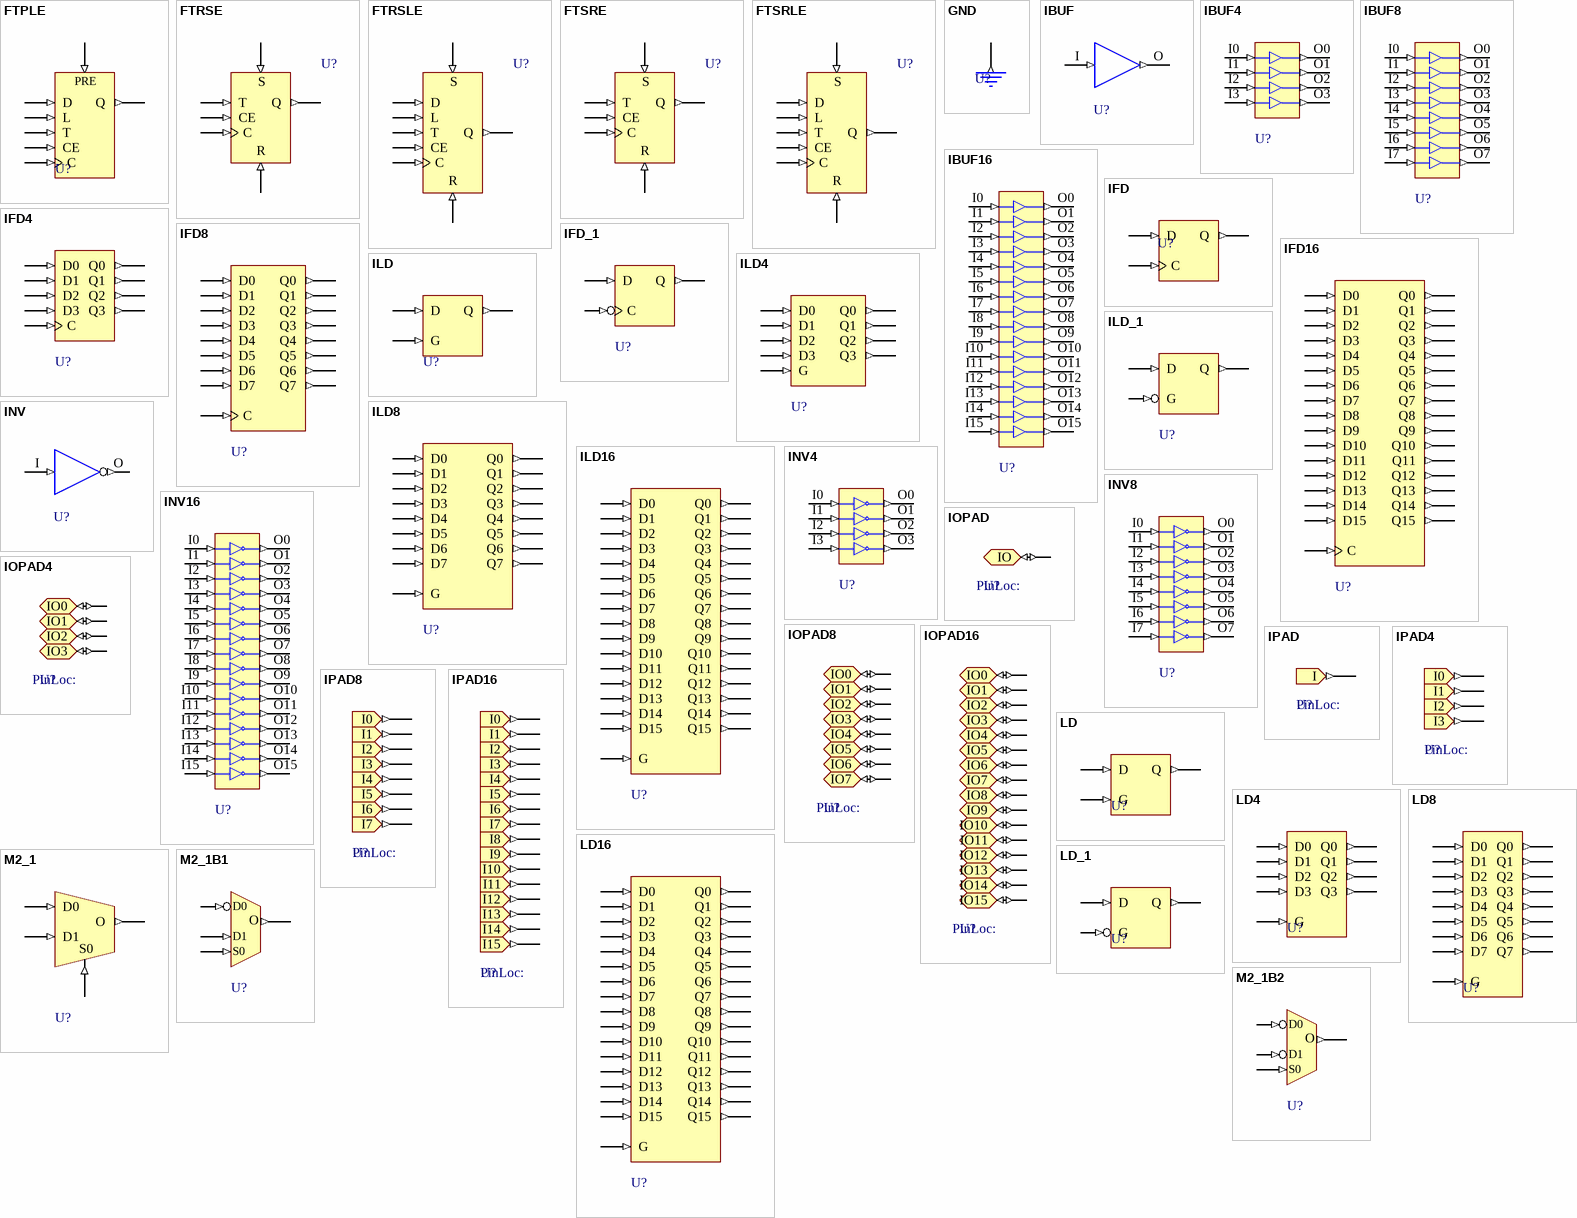
[diagram p4: symbols FTPLE to M2_1B2]

## FTPLE
designator U?
Toggle/Loadable Flip-Flop with Toggle and Clock Enable and Asynchronous Preset; FPGAVendor: CUPL; Published: 17/04/2002 5:24:18 PM; Publisher: Altium Limited
pins: C (in), CE (in), D (in), L (in), PRE (in), Q (out), T (in)

## FTRSE
designator U?
Toggle Flip-Flop with Toggle and Clock Enable and Synchronous Reset and Set; FPGAVendor: CUPL; Published: 17/04/2002 5:24:18 PM; Publisher: Altium Limited
pins: C (in), CE (in), Q (out), R (in), S (in), T (in)

## FTRSLE
designator U?
Toggle/Loadable Flip-Flop with Toggle and Clock Enable and Synchronous Reset and Set; FPGAVendor: CUPL; Published: 17/04/2002 5:24:18 PM; Publisher: Altium Limited
pins: C (in), CE (in), D (in), L (in), Q (out), R (in), S (in), T (in)

## FTSRE
designator U?
Toggle Flip-Flop with Toggle and Clock Enable and Synchronous Set and Reset; FPGAVendor: CUPL; Published: 17/04/2002 5:24:18 PM; Publisher: Altium Limited
pins: C (in), CE (in), Q (out), R (in), S (in), T (in)

## FTSRLE
designator U?
Toggle/Loadable Flip-Flop with Toggle and Clock Enable and Synchronous Set and Reset; FPGAVendor: CUPL; Published: 17/04/2002 5:24:18 PM; Publisher: Altium Limited
pins: C (in), CE (in), D (in), L (in), Q (out), R (in), S (in), T (in)

## GND
designator U?
Ground-Connection Signal Tag; FPGAVendor: CUPL; Published: 17/04/2002 5:24:18 PM; Publisher: Altium Limited
pins: G (out)

## IBUF
designator U?
Single-Input Buffer; FPGAVendor: CUPL; Published: 17/04/2002 5:24:18 PM; Publisher: Altium Limited
pins: I (in), O (out)

## IBUF4
designator U?
Multiple-Input Buffer; FPGAVendor: CUPL; Published: 17/04/2002 5:24:18 PM; Publisher: Altium Limited
pins: I0 (in), I1 (in), I2 (in), I3 (in), O0 (out), O1 (out), O2 (out), O3 (out)

## IBUF8
designator U?
Multiple-Input Buffer; FPGAVendor: CUPL; Published: 17/04/2002 5:24:18 PM; Publisher: Altium Limited
pins: I0 (in), I1 (in), I2 (in), I3 (in), I4 (in), I5 (in), I6 (in), I7 (in), O0 (out), O1 (out), O2 (out), O3 (out), O4 (out), O5 (out), O6 (out), O7 (out)

## IBUF16
designator U?
Multiple-Input Buffer; FPGAVendor: CUPL; Published: 17/04/2002 5:24:18 PM; Publisher: Altium Limited
pins: I0 (in), I1 (in), I2 (in), I3 (in), I4 (in), I5 (in), I6 (in), I7 (in), I8 (in), I9 (in), I10 (in), I11 (in), I12 (in), I13 (in), I14 (in), I15 (in), O0 (out), O1 (out), O2 (out), O3 (out), O4 (out), O5 (out), O6 (out), O7 (out), O8 (out), O9 (out), O10 (out), O11 (out), O12 (out), O13 (out), O14 (out), O15 (out)

## IFD
designator U?
Single-Input D Flip-Flop; FPGAVendor: CUPL; Published: 17/04/2002 5:24:18 PM; Publisher: Altium Limited
pins: C (in), D (in), Q (out)

## IFD4
designator U?
Multiple-Input D Flip-Flop; FPGAVendor: CUPL; Published: 17/04/2002 5:24:18 PM; Publisher: Altium Limited
pins: C (in), D0 (in), D1 (in), D2 (in), D3 (in), Q0 (out), Q1 (out), Q2 (out), Q3 (out)

## IFD8
designator U?
Multiple-Input D Flip-Flop; FPGAVendor: CUPL; Published: 17/04/2002 5:24:18 PM; Publisher: Altium Limited
pins: C (in), D0 (in), D1 (in), D2 (in), D3 (in), D4 (in), D5 (in), D6 (in), D7 (in), Q0 (out), Q1 (out), Q2 (out), Q3 (out), Q4 (out), Q5 (out), Q6 (out), Q7 (out)

## IFD16
designator U?
Multiple-Input D Flip-Flop; FPGAVendor: CUPL; Published: 17/04/2002 5:24:18 PM; Publisher: Altium Limited
pins: C (in), D0 (in), D1 (in), D2 (in), D3 (in), D4 (in), D5 (in), D6 (in), D7 (in), D8 (in), D9 (in), D10 (in), D11 (in), D12 (in), D13 (in), D14 (in), D15 (in), Q0 (out), Q1 (out), Q2 (out), Q3 (out), Q4 (out), Q5 (out), Q6 (out), Q7 (out), Q8 (out), Q9 (out), Q10 (out), Q11 (out), Q12 (out), Q13 (out), Q14 (out), Q15 (out)

## IFD_1
designator U?
Input D Flip-Flop with Inverted Clock; FPGAVendor: CUPL; Published: 17/04/2002 5:24:18 PM; Publisher: Altium Limited
pins: C (in), D (in), Q (out)

## ILD
designator U?
Transparent Input Data Latch; FPGAVendor: CUPL; Published: 17-Apr-2002; Publisher: Altium Limited
pins: D (in), G (in), Q (out)

## ILD4
designator U?
Transparent Input Data Latch; FPGAVendor: CUPL; Published: 17-Apr-2002; Publisher: Altium Limited
pins: D0 (in), D1 (in), D2 (in), D3 (in), G (in), Q0 (out), Q1 (out), Q2 (out), Q3 (out)

## ILD8
designator U?
Transparent Input Data Latch; FPGAVendor: CUPL; Published: 17-Apr-2002; Publisher: Altium Limited
pins: D0 (in), D1 (in), D2 (in), D3 (in), D4 (in), D5 (in), D6 (in), D7 (in), G (in), Q0 (out), Q1 (out), Q2 (out), Q3 (out), Q4 (out), Q5 (out), Q6 (out), Q7 (out)

## ILD16
designator U?
Transparent Input Data Latch; FPGAVendor: CUPL; Published: 17-Apr-2002; Publisher: Altium Limited
pins: D0 (in), D1 (in), D2 (in), D3 (in), D4 (in), D5 (in), D6 (in), D7 (in), D8 (in), D9 (in), D10 (in), D11 (in), D12 (in), D13 (in), D14 (in), D15 (in), G (in), Q0 (out), Q1 (out), Q2 (out), Q3 (out), Q4 (out), Q5 (out), Q6 (out), Q7 (out), Q8 (out), Q9 (out), Q10 (out), Q11 (out), Q12 (out), Q13 (out), Q14 (out), Q15 (out)

## ILD_1
designator U?
Transparent Input Data Latch with Inverted Gate; FPGAVendor: CUPL; Published: 17-Apr-2002; Publisher: Altium Limited
pins: D (in), G (in), Q (out)

## INV
designator U?
Inverter; FPGAVendor: CUPL; Published: 17-Apr-2002; Publisher: Altium Limited
pins: I (in), O (out)

## INV4
designator U?
4 x Inverters; FPGAVendor: CUPL; Published: 17-Apr-2002; Publisher: Altium Limited
pins: I0 (in), I1 (in), I2 (in), I3 (in), O0 (out), O1 (out), O2 (out), O3 (out)

## INV8
designator U?
8 x Inverters; FPGAVendor: CUPL; Published: 17-Apr-2002; Publisher: Altium Limited
pins: I0 (in), I1 (in), I2 (in), I3 (in), I4 (in), I5 (in), I6 (in), I7 (in), O0 (out), O1 (out), O2 (out), O3 (out), O4 (out), O5 (out), O6 (out), O7 (out)

## INV16
designator U?
16 x Inverters; FPGAVendor: CUPL; Published: 17-Apr-2002; Publisher: Altium Limited
pins: I0 (in), I1 (in), I2 (in), I3 (in), I4 (in), I5 (in), I6 (in), I7 (in), I8 (in), I9 (in), I10 (in), I11 (in), I12 (in), I13 (in), I14 (in), I15 (in), O0 (out), O1 (out), O2 (out), O3 (out), O4 (out), O5 (out), O6 (out), O7 (out), O8 (out), O9 (out), O10 (out), O11 (out), O12 (out), O13 (out), O14 (out), O15 (out)

## IOPAD
designator U?
Single-Input/Output Pad; FPGAVendor: CUPL; ActiveHigh: True; Published: 17-Apr-2002; Publisher: Altium Limited
pins: IO (io)

## IOPAD4
designator U?
Multiple-Input/Output Pads; FPGAVendor: CUPL; ActiveHigh: True; Published: 17-Apr-2002; Publisher: Altium Limited
pins: IO0 (io), IO1 (io), IO2 (io), IO3 (io)